# Altium integrated library My_Library_Fixed_Inductor.IntLib: 4 symbols
Pins are listed as number, name and electrical type; pins without a type are passive.

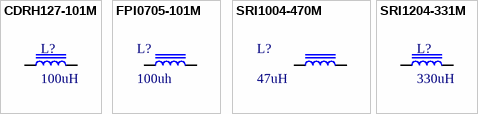
[diagram p0: symbols CDRH127-101M to SRI1204-331M]

## CDRH127-101M
designator L?, comment 100uH
330uh 1A Shielded Fixed inductor COREMASTER; Current: 3.28A; DCR: 170m; Tolerance: 20%; Value: 100uH; Dimensions: 12x12x8; ComponentLink1Description: ozdisan; ComponentLink1URL: https://ozdisan.com/passive-components/inductors/fixed-inductors/SRI1204-331M
footprint WE-PD_1245 (SMT Shielded Power Inductor, 2-leads, body 12x12mm)
pins: 1, 2

## FPI0705-101M
designator L?, comment 100uh
100uh 1.2A Fixed inductor; DCR: 430m; Tolerance: 20%; Value: 100uh; Current: 1.2A; Dimensions: 7.80x7.00x5.00; ComponentLink1Description: ozdisan; ComponentLink1URL: https://ozdisan.com/passive-components/inductors/fixed-inductors/FPI0705-101M
footprint FPI0705-101M
pins: 1, 2

## SRI1004-470M
designator L?, comment 47uH
SMT Inductor; Value: 47uH
footprint INDP100100X45N (Precision Wire Wound Inductor, 2-Leads, Body 10.00x10.00mm, IPC Medium Density)
pins: 1, 2

## SRI1204-331M
designator L?, comment 330uH
330uh 1A Shielded Fixed inductor COREMASTER; DCR: 800m; Tolerance: 20%; Value: 330uH; Current: 1A; Dimensions: 12x12x5; ComponentLink1Description: ozdisan; ComponentLink1URL: https://ozdisan.com/passive-components/inductors/fixed-inductors/SRI1204-331M
footprint WE-PD_1245 (SMT Shielded Power Inductor, 2-leads, body 12x12mm)
pins: 1, 2